# EAGLE library part TPS62040 (library robotter_ic)
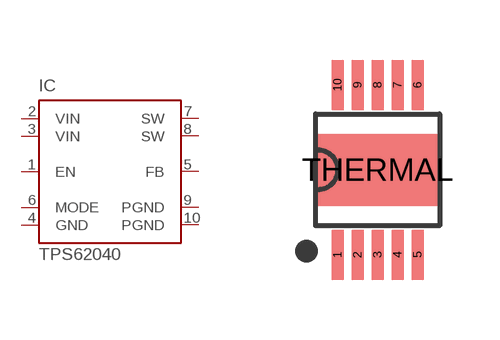
[diagram p3: symbol with the pads of MSOP10_THERMAL; footprint MSOP10_THERMAL]

Designator prefix IC

## TPS62040DGQ  [MSOP10_THERMAL]
1  EN
2  VIN
3  VIN
4  GND
5  FB
6  MODE
7  SW
8  SW
9  PGND
10  PGND

## Footprint MSOP10_THERMAL (pad centres in mm)
smd 0.3 x 1.25: 1 -1,-2.127; 2 -0.5,-2.127; 3 0,-2.127; 4 0.5,-2.127; 5 1,-2.127; 6 1,2.127; 7 0.5,2.127; 8 0,2.127; 9 -0.5,2.127; 10 -1,2.127
smd 3 x 1.8: THERMAL 0,0